# Altium footprint library MC33886PVW.PcbLib: 1 footprints
Each footprint in its own frame and in the unit in brackets; x right, y up, seen from the top. Pads: shape width x height; smd on the part's side, far side on the other; paste and mask are expansions set on the pad; w line width, h text height; cw(c..) or ccw(c..) is an arc to the next point about the centre after c.
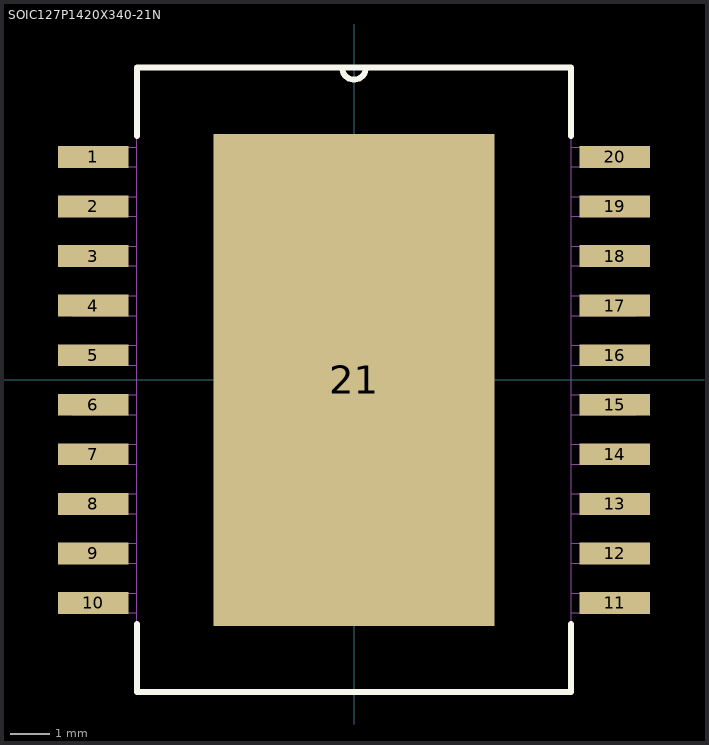
[diagram p0: the footprint, top view; thin cyan lines are the x and y axes]

## SOIC127P1420X340-21N [mil]
pads (21):
  rect 71x22 smd: 1(-263,225) 2(-263,175) 3(-263,125) 4(-263,75) 5(-263,25) 6(-263,-25) 7(-263,-75) 8(-263,-125) 9(-263,-175) 10(-263,-225) 11(263,-225) 12(263,-175) 13(263,-125) 14(263,-75) 15(263,-25) 16(263,25) 17(263,75) 18(263,125) 19(263,175) 20(263,225)
  rect 283x496 smd: 21(0,0)
Top Overlay:
  lines w6: -219,-246 -219,-315 219,-315 219,-246 ; -219,246 -219,315 -12,315 ; 219,246 219,315 12,315 ; -12,315 ccw(c0,315) 12,315 ; -12,315 12,315
Mechanical 13:
  lines w0: -12,315 ccw(c0,315) 12,315 ; -12,315 12,315 ; -12,315 -219,315 -219,-315 219,-315 219,315 12,315 ; -284,-235 -284,-215 -219,-215 -219,-235 -284,-235 ; -284,-185 -284,-165 -219,-165 -219,-185 -284,-185 ; -284,-135 -284,-115 -219,-115 -219,-135 -284,-135 ; -284,-85 -284,-65 -219,-65 -219,-85 -284,-85 ; -284,-35 -284,-15 -219,-15 -219,-35 -284,-35 ; -284,15 -284,35 -219,35 -219,15 -284,15 ; -284,65 -284,85 -219,85 -219,65 -284,65 ; -284,115 -284,135 -219,135 -219,115 -284,115 ; -284,165 -284,185 -219,185 -219,165 -284,165 ; -284,215 -284,235 -219,235 -219,215 -284,215 ; 219,-235 219,-215 284,-215 284,-235 219,-235 ; 219,-185 219,-165 284,-165 284,-185 219,-185 ; 219,-135 219,-115 284,-115 284,-135 219,-135 ; 219,-85 219,-65 284,-65 284,-85 219,-85 ; 219,-35 219,-15 284,-15 284,-35 219,-35 ; 219,15 219,35 284,35 284,15 219,15 ; 219,65 219,85 284,85 284,65 219,65 ; 219,115 219,135 284,135 284,115 219,115 ; 219,165 219,185 284,185 284,165 219,165 ; 219,215 219,235 284,235 284,215 219,215
3D body "step_temp.STEP": height 133.86, standoff 0, extent -279.53,-312.99 279.53,312.99